# Altium footprint library IDC Contact Connector.PcbLib: 1 footprints
Each footprint in its own frame and in the unit in brackets; x right, y up, seen from the top. Pads: shape width x height; smd on the part's side, far side on the other; paste and mask are expansions set on the pad; w line width, h text height; cw(c..) or ccw(c..) is an arc to the next point about the centre after c.
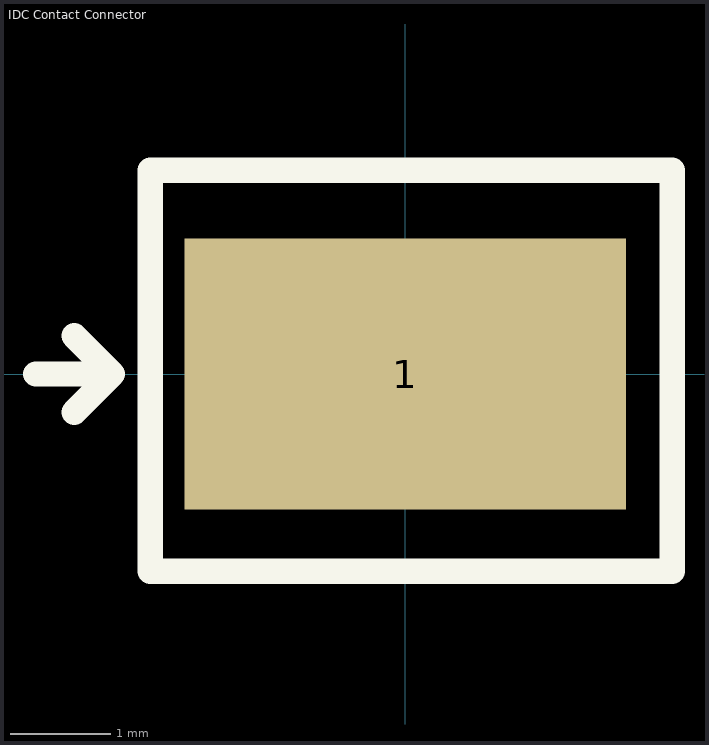
[diagram p0: the footprint, top view; thin cyan lines are the x and y axes]

## IDC Contact Connector [mm]
pads (1):
  rect 4.4x2.7 smd: 1(0,0)
Top Overlay:
  lines w0.254: -3.683,0 -2.921,0 ; -3.302,-0.381 -2.921,0 ; -3.302,0.381 -2.921,0 ; -2.54,-1.968 2.66,-1.968 2.66,2.032 -2.54,2.032 -2.54,-1.968
3D body: height 4.05, standoff 0, extent -2.095,-1.968 1.905,2.032